# Altium footprint library FUSE.PcbLib: 3 footprints
Each footprint in its own frame and in the unit in brackets; x right, y up, seen from the top. Pads: shape width x height; smd on the part's side, far side on the other; paste and mask are expansions set on the pad; w line width, h text height; cw(c..) or ccw(c..) is an arc to the next point about the centre after c.
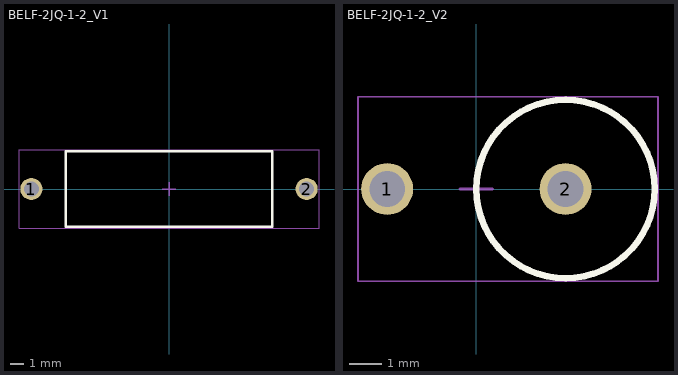
[diagram p0: the footprints below, top view; thin cyan lines are the x and y axes]

## BELF-2JQ-1-2_V1 [mm] "Axial Lead, 2-Leads, Dia 5.5mm, Body Length 15mm, Pin Spacing 20mm"
height 5.5
pads (2):
  round 1.6 hole 1.1: 1(-10,0) 2(10,0)
Top Overlay:
  lines w0.2: -7.5,-2.75 -7.5,2.75 7.5,2.75 7.5,-2.75 -7.5,-2.75
Mechanical 13:
  lines w0.1: -7.5,-2.75 7.5,-2.75 7.5,2.75 -7.5,2.75 -7.5,-2.75
Mechanical 15:
  lines w0.05: -10.9,-2.85 -10.9,2.85 10.9,2.85 10.9,-2.85 -10.9,-2.85
  lines w0.1: -0.5,0 0.5,0 ; 0,-0.5 0,0.5
3D body: height 5.23, standoff 0.25, extent -3,-2.495 3,2.495
3D body: height 5.33, standoff 0.15, extent -5,-2.595 -3,2.595
3D body: height 5.33, standoff 0.15, extent 3,-2.595 5,2.595
3D body: height 5.48, standoff 0, extent -7.5,-2.744 -5,2.745
3D body: height 5.48, standoff 0, extent 5,-2.745 7.5,2.744
3D body: height 3.15, standoff 2.34, extent -10,-0.405 -7.5,0.406
3D body: height 3.15, standoff 2.34, extent 7.5,-0.406 10,0.406
3D body: height 2.75, standoff -2, extent -10.403,-0.405 -9.593,0.406
3D body: height 3.16, standoff 2.34, extent -10.402,-0.404 -9.593,0.405
3D body: height 2.75, standoff -2, extent 9.597,-0.405 10.407,0.406
3D body: height 3.16, standoff 2.34, extent 9.598,-0.404 10.407,0.405

## BELF-2JQ-1-2_V2 [mm] "Axial Lead, 2-Leads, Dia 5.5mm, Body Length 15mm, Pin Spacing 5.5mm"
height 18
pads (2):
  round 1.6 hole 1.1: 1(-2.75,0) 2(2.75,0)
Top Overlay:
  circle w0.2: c2.75,0 r2.75
Mechanical 13:
  circle w0.1: c2.75,0 r2.75
Mechanical 15:
  lines w0.05: -3.65,-2.85 -3.65,2.85 5.6,2.85 5.6,-2.85 -3.65,-2.85
  lines w0.1: -0.5,0 0.5,0 ; 0,-0.5 0,0.5
3D body: height 2.5, standoff 0, extent 0.022,-2.744 5.5,2.745
3D body: height 10.5, standoff 4.5, extent 0.27,-2.495 5.25,2.495
3D body: height 4.5, standoff 2.5, extent 0.171,-2.595 5.35,2.595
3D body: height 12.5, standoff 10.5, extent 0.171,-2.595 5.35,2.595
3D body: height 15, standoff 12.5, extent 0.022,-2.744 5.5,2.745
3D body: height 17.59, standoff -2, extent 2.347,-0.405 3.157,0.406
3D body: height 17.59, standoff -2, extent -3.153,-0.405 -2.343,0.406
3D body: height 18, standoff 17.19, extent -2.75,-0.405 2.75,0.406
3D body: height 18, standoff 17.19, extent 2.348,-0.404 3.157,0.405
3D body: height 18, standoff 17.19, extent -3.152,-0.405 -2.343,0.405

## PCBComponent_1 [mm]